# EAGLE library part LQFP64-DIP (library PocketCube)
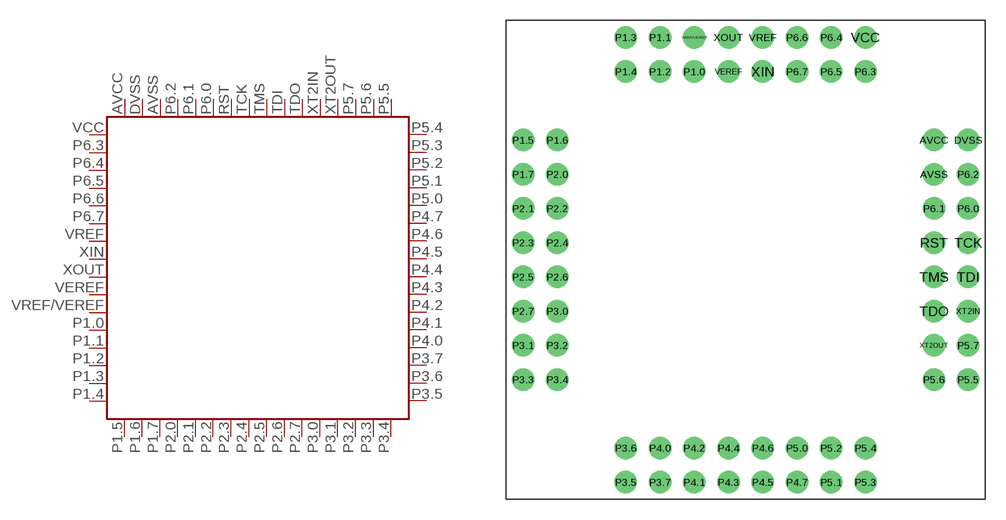
[diagram p10: symbol with the pads of LQFP64-DIP; footprint LQFP64-DIP]

Designator prefix -

## LQFP64-DIP  [LQFP64-DIP]
AVCC  AVCC
AVSS  AVSS
DVSS  DVSS
P1.0  P1.0
P1.1  P1.1
P1.2  P1.2
P1.3  P1.3
P1.4  P1.4
P1.5  P1.5
P1.6  P1.6
P1.7  P1.7
P2.0  P2.0
P2.1  P2.1
P2.2  P2.2
P2.3  P2.3
P2.4  P2.4
P2.5  P2.5
P2.6  P2.6
P2.7  P2.7
P3.0  P3.0
P3.1  P3.1
P3.2  P3.2
P3.3  P3.3
P3.4  P3.4
P3.5  P3.5
P3.6  P3.6
P3.7  P3.7
P4.0  P4.0
P4.1  P4.1
P4.2  P4.2
P4.3  P4.3
P4.4  P4.4
P4.5  P4.5
P4.6  P4.6
P4.7  P4.7
P5.0  P5.0
P5.1  P5.1
P5.2  P5.2
P5.3  P5.3
P5.4  P5.4
P5.5  P5.5
P5.6  P5.6
P5.7  P5.7
P6.0  P6.0
P6.1  P6.1
P6.2  P6.2
P6.3  P6.3
P6.4  P6.4
P6.5  P6.5
P6.6  P6.6
P6.7  P6.7
RST  RST
TCK  TCK
TDI  TDI
TDO  TDO
TMS  TMS
VCC  DVCC
VEREF  VEREF
VREF  VREF
VREF/VEREF  VREF/VEREF
XIN  XIN
XOUT  XOUT
XT2IN  XT2IN
XT2OUT  XT2OUT

## Footprint LQFP64-DIP (pad centres in mm)
drill 1 pad 1.676: AVCC 22.86,13.97; AVSS 22.86,11.43; DVSS 25.4,13.97; P1.0 5.08,19.05; P1.1 2.54,21.59; P1.2 2.54,19.05; P1.3 0,21.59; P1.4 0,19.05; P1.5 -7.62,13.97; P1.6 -5.08,13.97; P1.7 -7.62,11.43; P2.0 -5.08,11.43; P2.1 -7.62,8.89; P2.2 -5.08,8.89; P2.3 -7.62,6.35; P2.4 -5.08,6.35; P2.5 -7.62,3.81; P2.6 -5.08,3.81; P2.7 -7.62,1.27; P3.0 -5.08,1.27; P3.1 -7.62,-1.27; P3.2 -5.08,-1.27; P3.3 -7.62,-3.81; P3.4 -5.08,-3.81; P3.5 0,-11.43; P3.6 0,-8.89; P3.7 2.54,-11.43; P4.0 2.54,-8.89; P4.1 5.08,-11.43; P4.2 5.08,-8.89; P4.3 7.62,-11.43; P4.4 7.62,-8.89; P4.5 10.16,-11.43; P4.6 10.16,-8.89; P4.7 12.7,-11.43; P5.0 12.7,-8.89; P5.1 15.24,-11.43; P5.2 15.24,-8.89; P5.3 17.78,-11.43; P5.4 17.78,-8.89; P5.5 25.4,-3.81; P5.6 22.86,-3.81; P5.7 25.4,-1.27; P6.0 25.4,8.89; P6.1 22.86,8.89; P6.2 25.4,11.43; P6.3 17.78,19.05; P6.4 15.24,21.59; P6.5 15.24,19.05; P6.6 12.7,21.59; P6.7 12.7,19.05; RST 22.86,6.35; TCK 25.4,6.35; TDI 25.4,3.81; TDO 22.86,1.27; TMS 22.86,3.81; VCC 17.78,21.59; VEREF 7.62,19.05; VREF 10.16,21.59; VREF/VEREF 5.08,21.59; XIN 10.16,19.05; XOUT 7.62,21.59; XT2IN 25.4,1.27; XT2OUT 22.86,-1.27